# Altium footprint library clock.PcbLib: 69 footprints (part 5 of 5)
Each footprint in its own frame and in the unit in brackets; x right, y up, seen from the top. Pads: shape width x height; smd on the part's side, far side on the other; paste and mask are expansions set on the pad; w line width, h text height; cw(c..) or ccw(c..) is an arc to the next point about the centre after c.
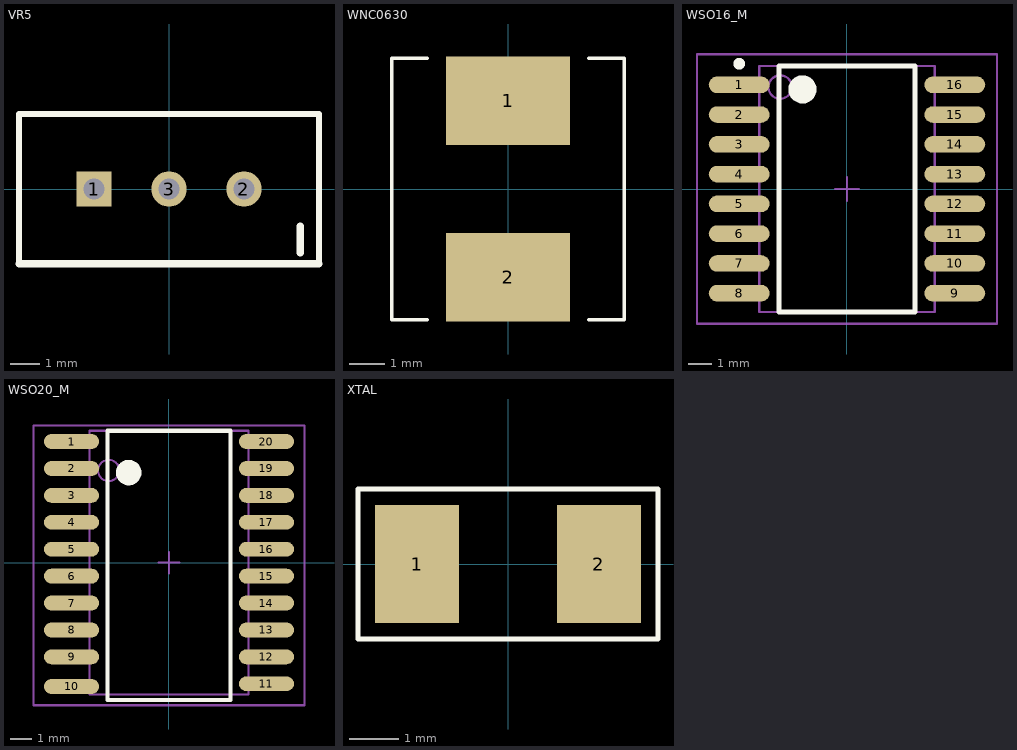
[diagram p4: the footprints below, top view; thin cyan lines are the x and y axes]

## VR5 [mm] "Thru-Hole; 3 Leads"
pads (3):
  rect 1.2x1.2 hole 0.7: 1(-2.54,0)
  round 1.2 hole 0.7: 2(2.54,0) 3(0,0)
Top Overlay:
  lines w0.2: -5.08,-2.54 -5.08,2.54 5.08,2.54 5.08,0 5.08,-2.54
  lines w0.254: -5.08,-2.54 5.08,-2.54 ; 4.445,-2.159 4.445,-1.27

## WNC0630 [mm]
pads (2):
  rect 3.5x2.5 smd: 1(0,2.5) 2(0,-2.5)
Top Overlay:
  lines w0.1: -2.286,-3.7 -3.3,-3.7 -3.3,3.7 -2.286,3.7 ; 2.286,-3.7 3.3,-3.7 3.3,3.7 2.286,3.7

## WSO16_M [mm] "16-Pin Small Outline Integrated Circuit 1.27 mm Pitch, IPC Low Density"
height 2.65
pads (16):
  oval 2.6x0.7 smd: 1(-4.6,4.445) 2(-4.6,3.175) 3(-4.6,1.905) 4(-4.6,0.635) 5(-4.6,-0.635) 6(-4.6,-1.905) 7(-4.6,-3.175) 8(-4.6,-4.445) 9(4.6,-4.445) 10(4.6,-3.175) 11(4.6,-1.905) 12(4.6,-0.635) 13(4.6,0.635) 14(4.6,1.905) 15(4.6,3.175) 16(4.6,4.445)
Top Overlay:
  circle w0.6: c-1.9,4.25 r0.3
  circle w0.25: c-4.6,5.345 r0.125
  lines w0.2: -2.9,-5.25 2.9,-5.25 2.9,5.25 -2.9,5.25 -2.9,-5.25
Mechanical 13:
  circle w0.1: c-2.85,4.35 r0.5
  lines w0.1: -3.75,-5.25 3.75,-5.25 3.75,5.25 -3.75,5.25 -3.75,-5.25
Mechanical 15:
  lines w0.1: -0.5,0 0.5,0 ; 0,-0.5 0,0.5 ; -6.4,-5.75 6.4,-5.75 6.4,5.75 -6.4,5.75 -6.4,-5.75
3D body: height 2.65, standoff 0, extent -3.75,-5.25 3.75,5.25

## WSO20_M [mm] "16-Pin Small Outline Integrated Circuit 1.27 mm Pitch, IPC Low Density"
height 2.65
pads (20):
  oval 2.6x0.7 smd: 1(-4.6,5.715) 2(-4.6,4.445) 3(-4.6,3.175) 4(-4.6,1.905) 5(-4.6,0.635) 6(-4.6,-0.635) 7(-4.6,-1.905) 8(-4.6,-3.175) 9(-4.6,-4.445) 10(-4.6,-5.842) 11(4.6,-5.715) 12(4.6,-4.445) 13(4.6,-3.175) 14(4.6,-1.905) 15(4.6,-0.635) 16(4.6,0.635) 17(4.6,1.905) 18(4.6,3.175) 19(4.6,4.445) 20(4.6,5.715)
Top Overlay:
  circle w0.6: c-1.9,4.25 r0.3
  lines w0.2: -2.9,-6.477 2.9,-6.477 2.9,6.223 -2.9,6.223 -2.9,-6.477
Mechanical 13:
  circle w0.1: c-2.85,4.35 r0.5
  lines w0.1: -3.75,-6.223 3.75,-6.223 3.75,6.223 -3.75,6.223 -3.75,-6.223
Mechanical 15:
  lines w0.1: -0.5,0 0.5,0 ; 0,-0.5 0,0.5 ; -6.4,-6.731 6.4,-6.731 6.4,6.477 -6.4,6.477 -6.4,-6.731
3D body: height 2.65, standoff 0, extent -3.75,-6.223 3.75,6.223

## XTAL [mm]
pads (2):
  rect 1.7x2.4 smd: 1(-1.85,0) 2(1.85,0)
Top Overlay:
  lines w0.1: -3.048,-1.524 3.048,-1.524 3.048,1.524 -3.048,1.524 -3.048,-1.524